# Altium schematic symbol library Connector1x3.SchLib: 1 symbol
Pins are listed as number, name and electrical type; pins without a type are passive.

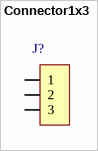
[diagram p0: symbol Connector1x3]

## Connector1x3
designator J?  (value not drawn)
pins: 1, 2, 3